# EAGLE library part DIP_SWITCH_8 (library Bauteile)
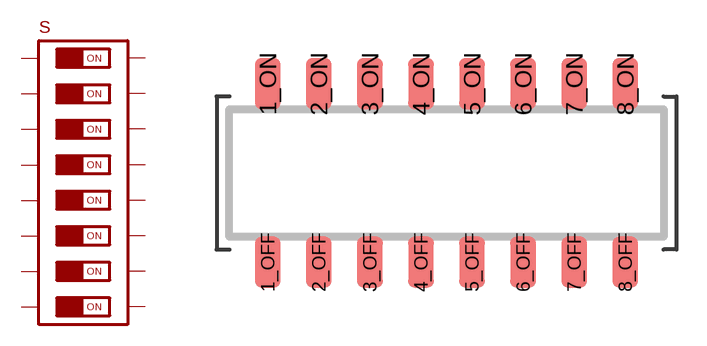
[diagram p52: symbol with the pads of SWITCH_8_SMD; footprint SWITCH_8_SMD]

Designator prefix S

## DIP_SWITCH_8(SMD)  [SWITCH_8_SMD]
1_OFF  1_OFF
1_ON  1_ON
2_OFF  2_OFF
2_ON  2_ON
3_OFF  3_OFF
3_ON  3_ON
4_OFF  4_OFF
4_ON  4_ON
5_OFF  5_OFF
5_ON  5_ON
6_OFF  6_OFF
6_ON  6_ON
7_OFF  7_OFF
7_ON  7_ON
8_OFF  8_OFF
8_ON  8_ON

## Footprint SWITCH_8_SMD (pad centres in mm)
smd 1.27 x 2.54: 1_OFF -8.89,-4.445; 1_ON -8.89,4.445; 2_OFF -6.35,-4.445; 2_ON -6.35,4.445; 3_OFF -3.81,-4.445; 3_ON -3.81,4.445; 4_OFF -1.27,-4.445; 4_ON -1.27,4.445; 5_OFF 1.27,-4.445; 5_ON 1.27,4.445; 6_OFF 3.81,-4.445; 6_ON 3.81,4.445; 7_OFF 6.35,-4.445; 7_ON 6.35,4.445; 8_OFF 8.89,-4.445; 8_ON 8.89,4.445